# Altium footprint library Capacitors.PcbLib: 8 footprints
Each footprint in its own frame and in the unit in brackets; x right, y up, seen from the top. Pads: shape width x height; smd on the part's side, far side on the other; paste and mask are expansions set on the pad; w line width, h text height; cw(c..) or ccw(c..) is an arc to the next point about the centre after c.
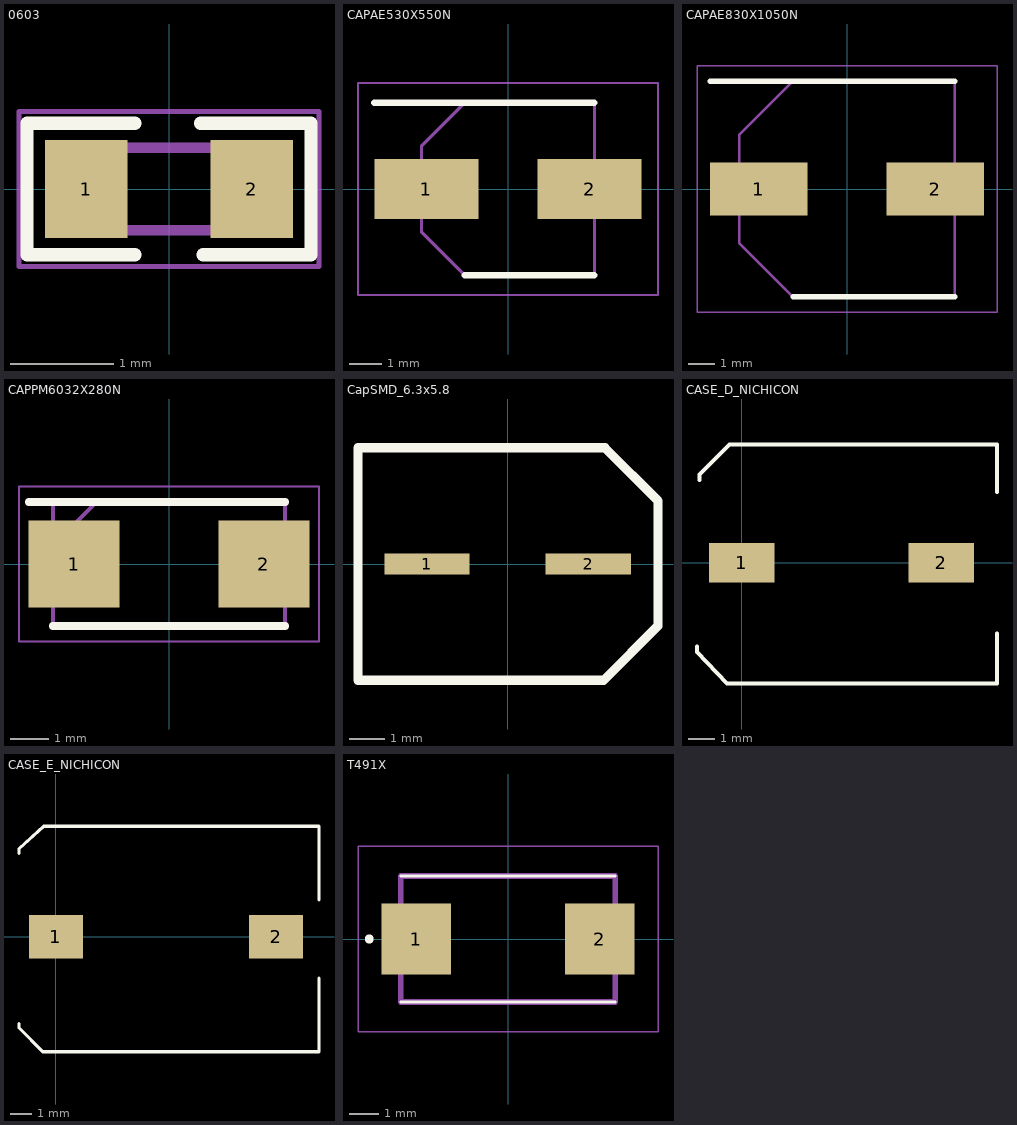
[diagram p0: the footprints below, top view; thin cyan lines are the x and y axes]

## 0603 [mm]
pads (2):
  rect 0.8x0.95 smd: 1(-0.8,0) 2(0.8,0)
Top Overlay:
  lines w0.127: -0.33,-0.635 -1.372,-0.635 -1.372,0.635 -0.33,0.635 ; 0.305,0.635 1.372,0.635 1.372,-0.635 0.33,-0.635
Mechanical 15:
  lines w0.1: -0.8,-0.4 -0.8,0.4 0.8,0.4 0.8,-0.4 -0.8,-0.4
Mechanical 20:
  lines w0.05: -1.45,-0.75 -1.45,0.75 1.45,0.75 1.45,-0.75 -1.45,-0.75
3D body "RC0603JR-070RL.stp": height 0.55, standoff 0, extent -0.8,-0.4 0.8,0.4

## CAPAE530X550N [mm]
pads (2):
  rect 3.2x1.85 smd: 1(-2.5,0) 2(2.5,0)
Top Overlay:
  lines w0.2: -4.1,2.65 2.65,2.65 ; -1.325,-2.65 2.65,-2.65
Mechanical 15:
  lines w0.1: -2.65,-1.325 -2.65,1.325 -1.325,2.65 2.65,2.65 2.65,-2.65 -1.325,-2.65 -2.65,-1.325
Mechanical 20:
  lines w0.05: -4.6,-3.25 4.6,-3.25 4.6,3.25 -4.6,3.25 -4.6,-3.25
3D body "UWX1V100MCL1GB.stp": height 5.5, standoff 0, extent -3.4,-2.75 3.4,2.75

## CAPAE830X1050N [mm]
pads (2):
  rect 3.75x2.05 smd: 1(-3.4,0) 2(3.4,0)
Top Overlay:
  lines w0.2: -5.275,4.15 4.15,4.15 ; -2.075,-4.15 4.15,-4.15
Mechanical 15:
  lines w0.1: -4.15,-2.075 -4.15,2.075 -2.075,4.15 4.15,4.15 4.15,-4.15 -2.075,-4.15 -4.15,-2.075
Mechanical 20:
  lines w0.05: -5.775,-4.75 5.775,-4.75 5.775,4.75 -5.775,4.75 -5.775,-4.75

## CAPPM6032X280N [mm]
pads (2):
  rect 2.35x2.25 smd: 1(-2.45,0) 2(2.45,0)
Top Overlay:
  lines w0.2: -3.625,1.6 3,1.6 ; -3,-1.6 3,-1.6
Mechanical 15:
  lines w0.1: -3,0.475 -1.875,1.6 ; -3,-1.6 -3,1.6 3,1.6 3,-1.6 -3,-1.6
Mechanical 20:
  lines w0.05: -3.875,-2 -3.875,2 3.875,2 3.875,-2 -3.875,-2

## CapSMD_6.3x5.8 [mm]
pads (2):
  rect 2.4x0.6 smd: 1(-2.273,0) 2(2.273,0)
Top Overlay:
  lines w0.254: -4.216,1.623 -4.216,-3.277 2.707,-3.277 4.239,-1.744 4.239,1.781 2.743,3.277 -4.216,3.277 -4.216,2.489 -4.216,1.626

## CASE_D_NICHICON [mm]
pads (2):
  rect 2.5x1.5 smd: 1(0,0) 2(7.62,0)
Top Overlay:
  lines w0.152: -1.7,-3.2 -1.7,-3.4 -0.56,-4.6 9.74,-4.6 9.74,-2.7 ; -1.6,3.16 -1.6,3.36 -0.46,4.5 9.74,4.5 9.74,2.7
3D body "Cap_6_6.stp": height 7.7, standoff 0, extent 0.381,-3.556 7.681,3.044

## CASE_E_NICHICON [mm]
pads (2):
  rect 2.5x2 smd: 1(0,0) 2(10.16,0)
Top Overlay:
  lines w0.152: -1.7,-4 -1.7,-4.2 -0.6,-5.3 12.14,-5.3 12.14,-1.9 ; -1.7,3.86 -1.7,4.06 -0.56,5.1 12.14,5.1 12.14,1.7
3D body "Cap_8_8.stp": height 9.89, standoff 0, extent 0.39,-4.572 9.77,3.908

## T491X [mm]
pads (2):
  rect 2.37x2.43 smd: 1(-3.12,0) 2(3.12,0)
Top Overlay:
  circle w0.2: c-4.72,0 r0.05
  lines w0.1: -3.65,-2.15 3.65,-2.15 ; -3.65,2.15 3.65,2.15
Mechanical 13:
  lines w0.2: -3.65,-2.15 3.65,-2.15 3.65,2.15 -3.65,2.15 -3.65,-2.15
Mechanical 15:
  lines w0.05: -5.105,-3.15 5.105,-3.15 5.105,3.15 -5.105,3.15 -5.105,-3.15
3D body "T491X476M035AT.stp": height 4.31, standoff 0, extent -3.8,-2.3 3.8,2.3